# Altium integrated library DEOP2324.IntLib: 21 symbols
Pins are listed as number, name and electrical type; pins without a type are passive.

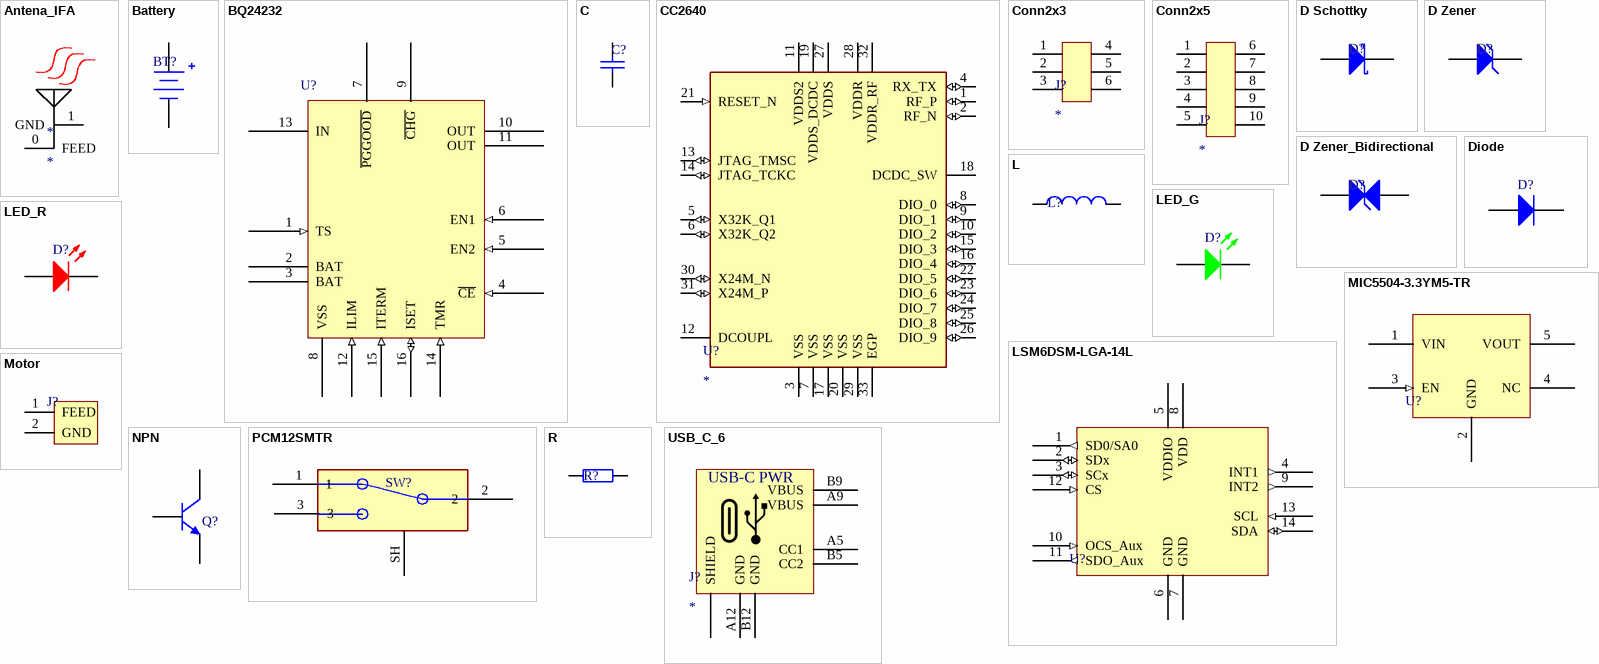
[diagram p0: symbols Antena_IFA to USB_C_6]

## Antena_IFA
designator *
footprint ANTENA_IFA
pins: 0 FEED, 1 GND (power)

## Battery
designator BT?
Multicell Battery
footprint Hand solder wire polarity
pins: 1 +, 2 -

## BQ24232
designator U?
Power management IC. USB-Friendly Lithium-Ion Battery Charger And Power-Path Management IC
footprint QFN50P300X300X100_HS-17N (QFN, 16-Leads, Body 3,00x3,00mm, Pitch 0,50mm, Thermal Pad 1,74x1,74mm, IPC Medium Density)
pins: 1 TS (in) "External NTC Thermistor Input.", 2 BAT (power) "Charger Power Stage Output and Battery Voltage Sense Input", 3 BAT (power) "Charger Power Stage Output and Battery Voltage Sense Input", 4 ~{CE} (in) "Charge Enable Active-Low Input", 5 EN2 (in) "Input Current Limit Configuration Inputs", 6 EN1 (in) "Input Current Limit Configuration Inputs", 7 ~{PGGOOD} (oc) "Open-drain Power Good Status Indication Output.", 8 VSS (power) "Ground.", 9 ~{CHG} (oc) "Open-Drain Charging Status Indication Output", 10 OUT (power) "System Supply Output", 11 OUT (power) "System Supply Output", 12 ILIM (in) "Adjustable Current Limit Programming Input", 13 IN (power) "Input Power Connection", 14 TMR (in) "Timer Programming Input", 15 ITERM (in) "Termination Current Programming Input", 16 ISET (io) "Fast-Charge Current Programming Input."

## C
designator C?
Capacitor
footprint C0402
pins: 1, 2

## CC2640
designator U?
IC RF TXRX+MCU BLUETOOTH 32VFQFN; Part number: CC2640R2FRSM; Manufacturer: Texas Instruments; Supplier 1: Mouser; Supplier Part Number 1: 595-CC2640R2FRSMR
footprint CC2640R2FRSM
pins: 1 RF_P (io), 2 RF_N (io), 3 VSS (power), 4 RX_TX (io), 5 X32K_Q1 (io), 6 X32K_Q2 (io), 7 VSS (power), 8 DIO_0 (io), 9 DIO_1 (io), 10 DIO_2 (io), 11 VDDS2 (power), 12 DCOUPL (power), 13 JTAG_TMSC (io), 14 JTAG_TCKC (io), 15 DIO_3 (io), 16 DIO_4 (io), 17 VSS (power), 18 DCDC_SW (power), 19 VDDS_DCDC (power), 20 VSS (power), 21 RESET_N (in), 22 DIO_5 (io), 23 DIO_6 (io), 24 DIO_7 (io), 25 DIO_8 (io), 26 DIO_9 (io), 27 VDDS (power), 28 VDDR (power), 29 VSS (power), 30 X24M_N (io), 31 X24M_P (io), 32 VDDR_RF (power), 33 EGP (power)

## Conn2x3
designator J?
2x3 pin Terminal
footprint Pogo_6pins_minimum
pins: 1, 2, 3, 4, 5, 6

## Conn2x5
designator J?
2x5 pin Terminal
pins: 1, 2, 3, 4, 5, 6, 7, 8, 9, 10

## D Schottky
designator D?
Schottky Diode
footprint SOD_523
pins: 1 A, 2 K

## D Zener
designator D?
Zener Diode
footprint DFN1006-2/SOD882
pins: 1 A, 2 K

## D Zener_Bidirectional
designator D?
Zener Diode Bidirectional
footprint DFN1006-2/SOD882
pins: 1 A, 2 K

## Diode
designator D?
Default Diode
pins: 1 A, 2 K

## L
designator L?
Inductor
footprint L0402
footprint L1210-3225
pins: 1, 2

## LED_G
designator D?
Green LED
footprint LED_Side_0603
pins: 1 A, 2 K

## LED_R
designator D?
Red LED
footprint LED_Side_0603
pins: 1 A, 2 K

## LSM6DSM-LGA-14L
designator U?
6-axis IMU, Accel&Gyro
footprint LSM6DSM-LGA-14L-v2
pins: 1 SD0/SA0 (out), 2 SDx (io), 3 SCx (io), 4 INT1 (out), 5 VDDIO (power), 6 GND (power), 7 GND (power), 8 VDD (power), 9 INT2 (out), 10 OCS_Aux (in), 11 SDO_Aux (out), 12 CS (in), 13 SCL (in), 14 SDA (io)

## MIC5504-3.3YM5-TR
designator U?
footprint SOT23-5
pins: 1 VIN (power), 2 GND (power), 3 EN (in), 4 NC, 5 VOUT (power)

## Motor
designator J?
footprint Hand solder wire polarity
pins: 1 FEED (power), 2 GND (power)

## NPN
designator Q?
NPN Bipolar Transistor
footprint SOT23
pins: 1 B, 2 E, 3 C

## PCM12SMTR
designator SW?
footprint PCM12SMTR
pins: 1, 2, 3, SH

## R
designator R?
Resistor
footprint R0402
pins: 1, 2

## USB_C_6
designator J?
USB-C 6 pin connector for power only. 20V/3A
footprint USB4135-GF-A (USB 2.0 Type C connector for power only.)
pins: A5 CC1, A9 VBUS (power), A12 GND (power), B5 CC2, B9 VBUS (power), B12 GND (power), SHIELD
text: USB-C PWR